# Altium footprint library counter.PcbLib: 15 footprints
Each footprint in its own frame and in the unit in brackets; x right, y up, seen from the top. Pads: shape width x height; smd on the part's side, far side on the other; paste and mask are expansions set on the pad; w line width, h text height; cw(c..) or ccw(c..) is an arc to the next point about the centre after c.
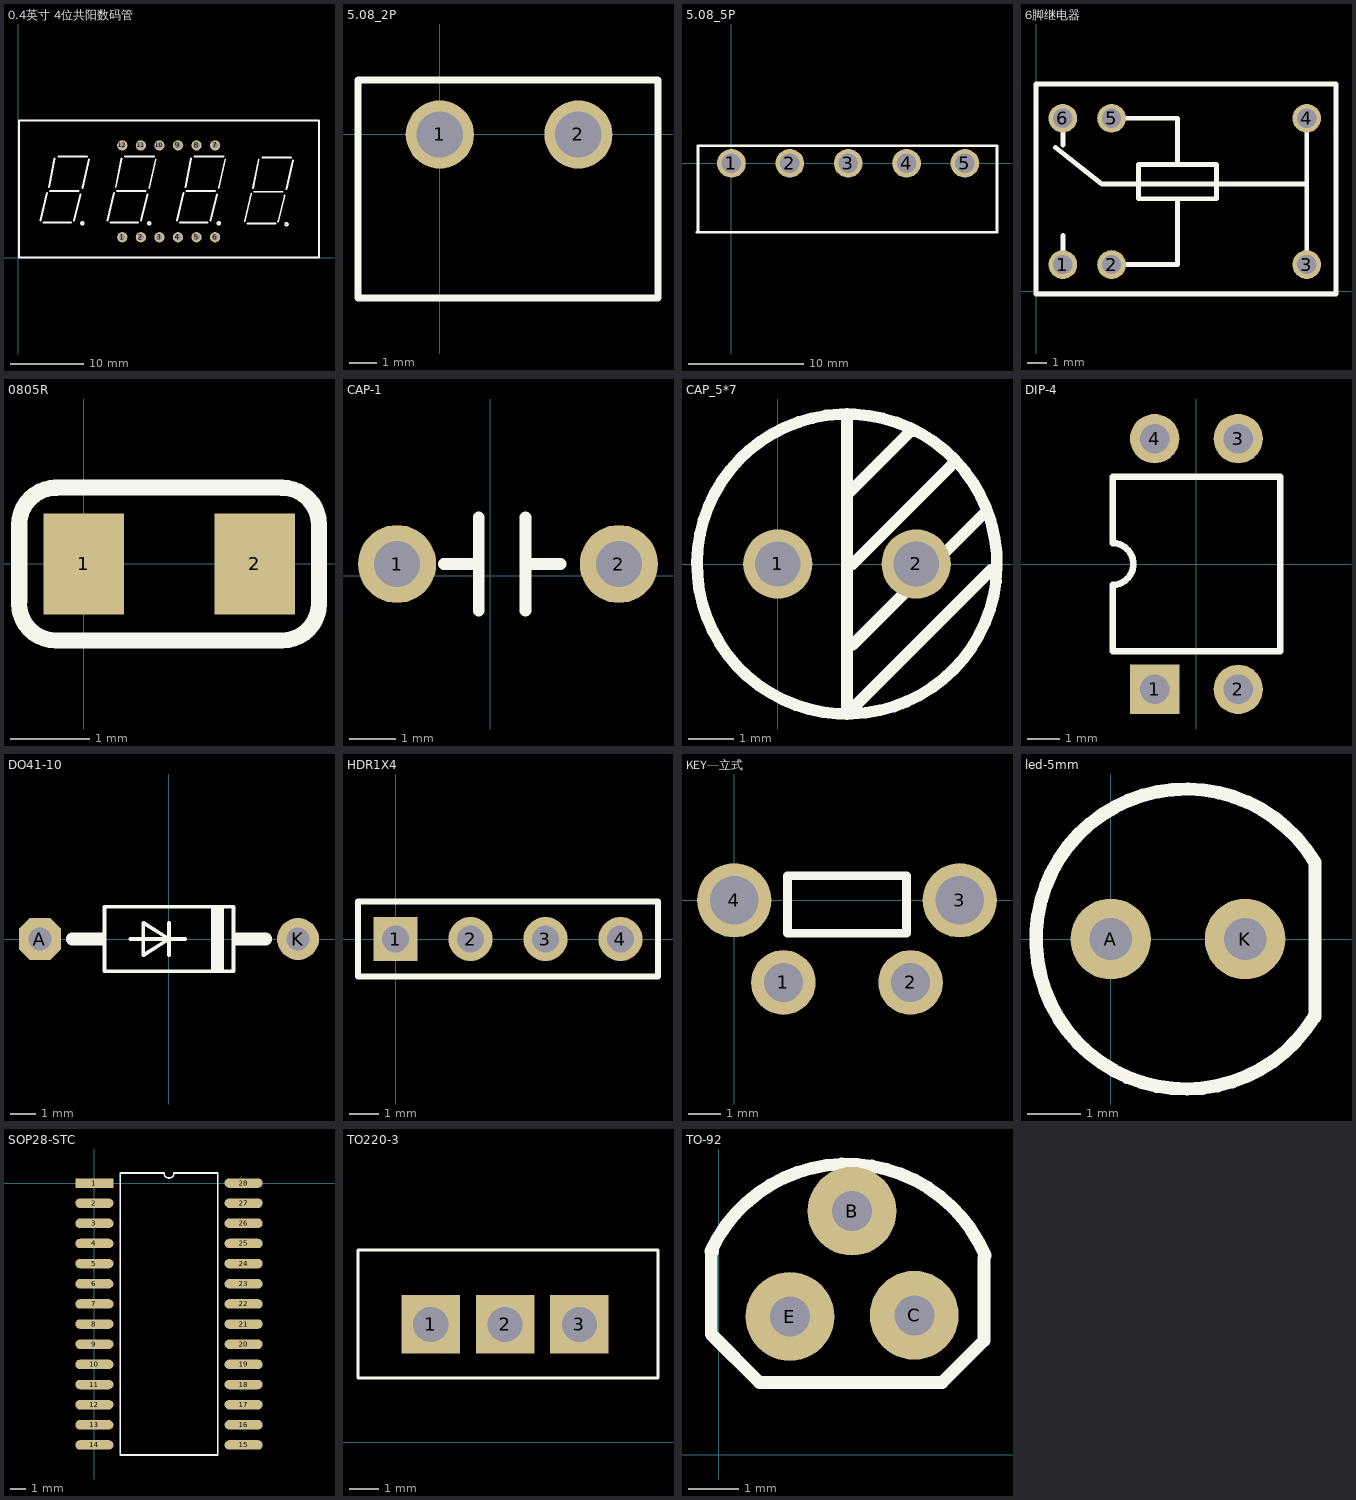
[diagram p0: the footprints below, top view; thin cyan lines are the x and y axes]

## 0.4英寸 4位共阳数码管 [mm]
pads (12):
  round 1.4 hole 0.9: 1(14.224,2.794) 2(16.764,2.794) 3(19.304,2.794) 4(21.844,2.794) 5(24.384,2.794) 6(26.924,2.794) 7(26.924,15.367) 8(24.384,15.367) 9(21.844,15.367) 10(19.304,15.367) 11(16.764,15.367) 12(14.224,15.367)
Top Overlay:
  lines w0.254: 3.048,5.08 3.937,8.89 ; 3.429,4.826 3.683,4.826 7.239,4.826 ; 4.191,9.652 4.953,13.589 ; 4.318,9.144 8.255,9.144 ; 5.461,13.843 9.398,13.843 ; 7.62,5.08 8.509,8.636 ; 8.763,4.879 ccw(c8.763,4.699) 8.843,4.86 ; 8.763,9.525 9.652,13.462 ; 12.192,5.08 13.081,8.89 ; 12.573,4.826 12.827,4.826 16.383,4.826 ; 13.335,9.652 14.097,13.589 ; 13.462,9.144 17.399,9.144 ; 14.605,13.843 18.542,13.843 ; 16.764,5.08 17.653,8.636 ; 17.907,4.879 ccw(c17.907,4.699) 17.987,4.86 ; 17.907,9.525 18.796,13.462 ; 21.717,5.08 22.606,8.89 ; 22.098,4.826 22.352,4.826 25.908,4.826 ; 22.86,9.652 23.622,13.589 ; 22.987,9.144 26.924,9.144 ; 24.13,13.843 28.067,13.843 ; 26.289,5.08 27.178,8.636 ; 27.432,4.879 ccw(c27.432,4.699) 27.512,4.86 ; 27.432,9.525 28.321,13.462 ; 30.988,4.953 31.877,8.763 ; 31.369,4.699 31.623,4.699 35.179,4.699 ; 32.131,9.525 32.893,13.462 ; 32.258,9.017 36.195,9.017 ; 33.401,13.716 37.338,13.716 ; 35.56,4.953 36.449,8.509 ; 36.703,4.752 ccw(c36.703,4.572) 36.783,4.733 ; 36.703,9.398 37.592,13.335 ; 0.086,0 0.086,18.796 0.254,18.796 41.148,18.796 41.148,0 40.64,0 0.086,0

## 5.08_2P [mm]
pads (2):
  round 2.5 hole 1.7: 1(0,0) 2(5.08,0)
Top Overlay:
  lines w0.254: -2,2 8,2 8,-6 -3,-6 -3,2 -1,2

## 5.08_5P [mm]
pads (5):
  round 2.5 hole 1.7: 1(0,0) 2(5.08,0) 3(10.16,0) 4(15.24,0) 5(20.32,0)
Top Overlay:
  lines w0.254: -3,-6 23.114,-6 23.114,1.524 16.688,1.524 -2,1.524 ; -2.921,-5.968 -2.921,1.524 -1,1.524

## 6脚继电器 [mm]
pads (6):
  round 1.5 hole 1: 1(1.397,1.397) 2(3.937,1.397) 3(14.097,1.397) 4(14.097,9.017) 5(3.937,9.017) 6(1.397,9.017)
Top Overlay:
  lines w0.254: 1.016,7.493 3.429,5.588 14.097,5.588 14.097,9.017 14.097,1.397 ; 1.397,1.397 1.397,2.921 ; 1.397,7.62 1.397,9.017 ; 3.937,9.017 5.715,9.017 7.366,9.017 7.366,6.731 7.366,6.604 5.334,6.604 5.334,4.826 9.398,4.826 9.398,6.604 6.604,6.604 ; 4.064,1.397 3.937,1.397 7.366,1.397 7.366,4.826 ; 0,-0.127 0,10.795 15.621,10.795 15.621,-0.127 0,-0.127

## 0805R [mil]
pads (2):
  rect 40x50 smd: 1(0,0) 2(85,0)
Top Overlay:
  lines w8: -32.11,-19.59 ccw(c-13.7,-19.59) -13.7,-38 ; -32,-18.5 -32,18.5 ; -32,19.5 cw(c-13.59,19.5) -13.59,37.91 ; -14.12,38 98.09,38 ; -12.7,-38 98.11,-38 ; 98.59,-38 ccw(c98.59,-19.59) 117,-19.59 ; 98.59,37.91 cw(c98.59,19.5) 117,19.5 ; 117,-18.59 117,18.5
3D body: height 30.39, standoff -0.39, extent 3.26,-24.61 82,24.61

## CAP-1 [mm]
pads (2):
  round 1.7 hole 1: 1(-2.032,0.254) 2(2.794,0.254)
Top Overlay:
  lines w0.254: -1.016,0.254 -0.254,0.254 ; -0.254,-0.762 -0.254,1.27 ; 0.762,-0.762 0.762,1.27 ; 0.762,0.254 1.524,0.254
3D body: height 2.54, standoff -9.97, extent -2.934,-2.81 3.442,3.556

## CAP_5*7 [mil]
pads (2):
  round 60 hole 39.37: 1(0,0) 2(120,0)
Top Overlay:
  lines w10: 60,-70 65,-70 180,45 ; 60,130 60,-130 60,60 115,115 120,115 ; 65,-125 185,-5 ; 65,0 150,85 ; 184.72,36.68 ccw(c60,0) 185.53,33.8
3D body: height 649.61, standoff -118.11, extent -80,-138.45 186.57,128.45

## DIP-4 [mm]
pads (4):
  rect 1.5x1.5 hole 0.9: 1(-1.27,-3.81)
  round 1.5 hole 0.9: 2(1.27,-3.81) 3(1.27,3.81) 4(-1.27,3.81)
Top Overlay:
  lines w0.2: -2.55,-2.65 -2.55,-0.635 ccw(c-2.55,0) -2.55,0.635 -2.55,2.65 2.55,2.65 2.55,-2.65 -2.55,-2.65

## DO41-10 [mil]
pads (2):
  oct 65x65 hole 35: A(-200,0)
  round 65 hole 35: K(200,0)
Top Overlay:
  rectangle: 99.81,-10.01 112.81,9.99
  region: -100.03,10.13 -113.03,10.13 -113.03,-9.87 -100.03,-9.87
  region: 85.16,50 65.16,50 65.16,-50 85.16,-50
  lines w6: -60,0 0,0 ; 0,-25 0,0 ; 0,25 0,0 ; 25,0 0,0 ; 0,0 -40,25 -40,-25 0,0 ; -100,-50 -100,50 100,50 100,-50 -100,-50
  lines w20: -150,0 -113,0 ; 113,0 150,0
3D body: height 100.5, standoff -100, extent -215,-50.5 215,50.5

## HDR1X4 [mm]
pads (4):
  rect 1.5x1.5 hole 0.9: 1(0,0)
  round 1.5 hole 0.9: 2(2.54,0) 3(5.08,0) 4(7.62,0)
Top Overlay:
  lines w0.2: -1.27,-1.27 -1.27,1.27 8.89,1.27 8.89,-1.27 -1.27,-1.27

## KEY—立式 [mm]
pads (4):
  round 2 hole 1.2: 1(1.524,-2.54) 2(5.461,-2.54)
  round 2.3 hole 1.5: 3(6.985,0) 4(0,0)
Top Overlay:
  lines w0.271: 1.651,-1.016 1.651,0.762 5.334,0.762 5.334,-1.016 1.651,-1.016

## led-5mm [mil]
pads (2):
  round 60 hole 31.5: A(0,0) K(100,0)
Top Overlay:
  lines w10: 151.56,-57.73 cw(c56,0) 152,57 152,-58
3D body: height 377.95, standoff -236.22, extent -68.8,-114.12 163.48,118.16

## SOP28-STC [mm]
pads (28):
  rect 2.4x0.6 smd: 1(0,0)
  oval 2.4x0.6 smd: 2(0,-1.27) 3(0,-2.54) 4(0,-3.81) 5(0,-5.08) 6(0,-6.35) 7(0,-7.62) 8(0,-8.89) 9(0,-10.16) 10(0,-11.43) 11(0,-12.7) 12(0,-13.97) 13(0,-15.24) 14(0,-16.51) 15(9.4,-16.51) 16(9.4,-15.24) 17(9.4,-13.97) 18(9.4,-12.7) 19(9.4,-11.43) 20(9.4,-10.16) 21(9.4,-8.89) 22(9.4,-7.62) 23(9.4,-6.35) 24(9.4,-5.08) 25(9.4,-3.81) 26(9.4,-2.54) 27(9.4,-1.27) 28(9.4,0)
Top Overlay:
  lines w0.1: 1.635,-17.145 1.635,0.635 4.382,0.635 ccw(c4.7,0.635) 5.017,0.635 7.765,0.635 7.765,-17.145 1.635,-17.145

## TO220-3 [mm]
pads (3):
  rect 2x2 hole 1.2: 1(-19.841,4.03) 2(-17.301,4.03) 3(-14.761,4.03)
Top Overlay:
  lines w0.1: -22.325,2.2 -22.325,6.575 -12.075,6.575 -12.075,2.2 -22.325,2.2
3D body: height 19.34, standoff -8.18, extent -22.28,2.17 -12.12,6.55

## TO-92 [mil]
pads (3):
  round 70 hole 31.5: B(105,192) C(154,110) E(56,109)
Top Overlay:
  lines w10: -6.34,160.46 cw(c101,111) 209.84,157.08 ; -5,160 -6,159 -6,95 32,57 176,57 209,90 209,155
3D body: height 327.95, standoff -157.48, extent 0,54.11 209.45,217.89